# Altium schematic symbol library SCH - Switches - SPST-NO.SchLib: 1 symbol
Pins are listed as number, name and electrical type; pins without a type are passive.

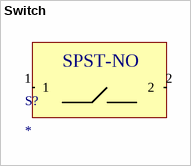
[diagram p0: symbol Switch]

## Switch
designator S?
pins: 1, 2
text: SPST-NO